# Altium schematic symbol library LED_SMD.SchLib: 18 symbols
Pins are listed as number, name and electrical type; pins without a type are passive.

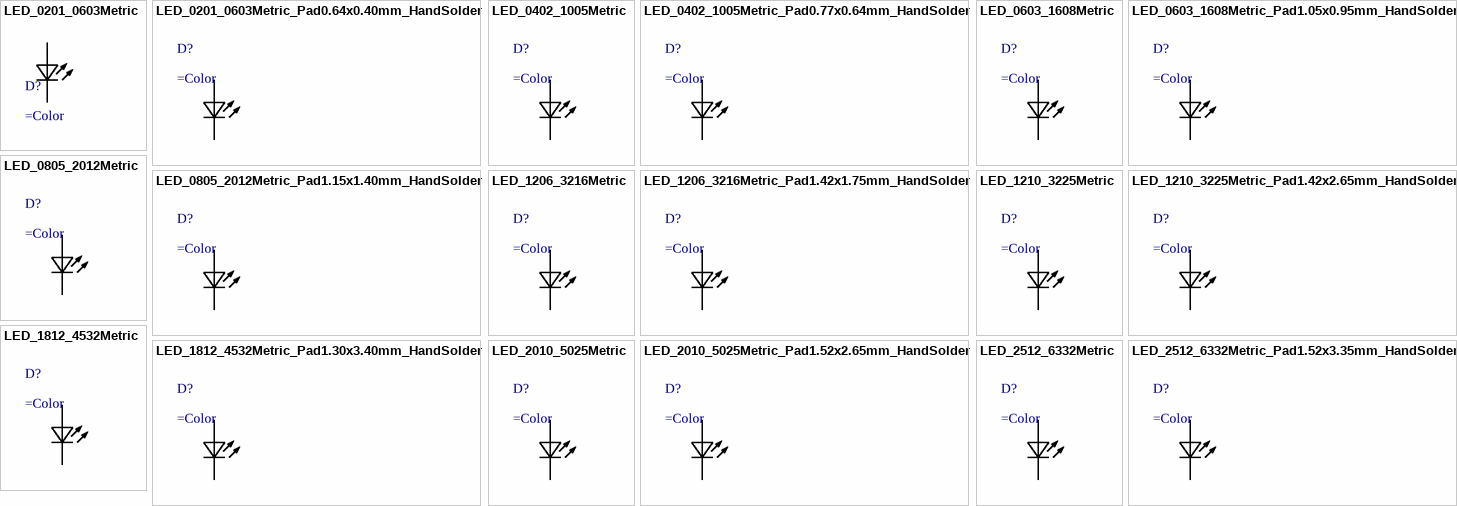
[diagram p0: symbols LED_0201_0603Metric to LED_2512_6332Metric_Pad1.52x3.35mm_HandSolder]

## LED_0201_0603Metric
designator D?
LED SMD 0201 (0603 Metric)
footprint LED_0201_0603Metric (LED SMD 0201 (0603 Metric))
pins: A Anode, K Cathode

## LED_0201_0603Metric_Pad0.64x0.40mm_HandSolder
designator D?
LED SMD 0201 (0603 Metric) Hand Solder
footprint LED_0201_0603Metric_Pad0.64x0.40mm_HandSolder (LED 0201 (0603 Metric) width Pad 0.64x0.40mm for Hand Solder)
pins: A Anode, K Cathode

## LED_0402_1005Metric
designator D?
LED SMD 0402 (1005 Metric)
footprint LED_0402_1005Metric (LED SMD 0402 (1005 Metric))
footprint LED_0402_1005Metric (LED SMD 0402 (1005 Metric))
pins: A Anode, K Cathode

## LED_0402_1005Metric_Pad0.77x0.64mm_HandSolder
designator D?
LED SMD 0402 (1005 Metric) Hand Solder
footprint LED_0402_1005Metric_Pad0.77x0.64mm_HandSolder (LED 0402 (1005 Metric) with Pad 0.77x0.64mm for Hand Solder)
pins: A Anode, K Cathode

## LED_0603_1608Metric
designator D?
LED SMD 0603 (1608 Metric)
footprint LED_0603_1608Metric (LED 0603 (1608 Metric))
pins: A Anode, K Cathode

## LED_0603_1608Metric_Pad1.05x0.95mm_HandSolder
designator D?
LED SMD 0603 (1608 Metric) Hnad Solder
footprint LED_0603_1608Metric_Pad1.05x0.95mm_HandSolder (LED 0603 (1608 Metric) with Pad 1.05x0.95mm for Hand Solder)
pins: A Anode, K Cathode

## LED_0805_2012Metric
designator D?
LED SMD 0805 (2012 Metric)
footprint LED_0805_2012Metric (LED 0805 (2012 Metric))
pins: A Anode, K Cathode

## LED_0805_2012Metric_Pad1.15x1.40mm_HandSolder
designator D?
LED SMD 0805 (2012 Metric) Hand Solder
footprint LED_0805_2012Metric_Pad1.15x1.40mm_HandSolder (LED 0805 (2012 Metric) with Pad 1.15x1.40mm for Hand Solder)
pins: A Anode, K Cathode

## LED_1206_3216Metric
designator D?
LED SMD 1206 (3216 Metric)
footprint LED_1206_3216Metric (LED 1206 (3216 Metric))
pins: A Anode, K Cathode

## LED_1206_3216Metric_Pad1.42x1.75mm_HandSolder
designator D?
LED SMD 1206 (3216 Metric) Hand Solder
footprint LED_1206_3216Metric_Pad1.42x1.75mm_HandSolder (LED 1206 (3216 Metric) with Pad 1.42x1.75mm for Hand Solder)
pins: A Anode, K Cathode

## LED_1210_3225Metric
designator D?
LED SMD 1210 (3225 Metric)
footprint LED_1210_3225Metric (LED 1210 (3225 Metric))
pins: A Anode, K Cathode

## LED_1210_3225Metric_Pad1.42x2.65mm_HandSolder
designator D?
LED SMD 1210 (3225 Metric) Hand Solder
footprint LED_1210_3225Metric_Pad1.42x2.65mm_HandSolder (LED 1210 (3225 Metric) with Pad 1.42x2.65mm for Hand Solder)
pins: A Anode, K Cathode

## LED_1812_4532Metric
designator D?
LED SMD 1812 (4532 Metric)
footprint LED_1812_4532Metric (LED 1812 (4532 Metric))
pins: A Anode, K Cathode

## LED_1812_4532Metric_Pad1.30x3.40mm_HandSolder
designator D?
LED SMD 1812 (4532 Metric) Hand Solder
footprint LED_1812_4532Metric_Pad1.30x3.40mm_HandSolder (LED 1812 (4532 Metric) for Pad 1.30x3.40mm for Hand Solder)
pins: A Anode, K Cathode

## LED_2010_5025Metric
designator D?
LED SMD 2110 (5025 Metric)
footprint LED_2010_5025Metric (LED 2010 (5025 Metric))
pins: A Anode, K Cathode

## LED_2010_5025Metric_Pad1.52x2.65mm_HandSolder
designator D?
LED SMD 2010 (5025 Metric) Hand Solder
footprint LED_2010_5025Metric_Pad1.52x2.65mm_HandSolder (LED 2010 (5025 Metric) with Pad1.52x2.65mm for Hand Solder)
pins: A Anode, K Cathode

## LED_2512_6332Metric
designator D?
LED SMD 2512 (6332 Metric)
footprint LED_2512_6332Metric (LED 2512 (6332 Metric))
pins: A Anode, K Cathode

## LED_2512_6332Metric_Pad1.52x3.35mm_HandSolder
designator D?
LED SMD 2512 (6332 Metric) Hand Solder
footprint LED_2512_6332Metric_Pad1.52x3.35mm_HandSolder (LED 2512 (6332 Metric)  Pad1.52x3.35mm Hand Solder)
pins: A Anode, K Cathode